# EAGLE library part EFM32TG110F32 (library EnergyMicro)
EFM32TG110F32 Tiny Microcontroller in 5mm x 5mm QFN24 package
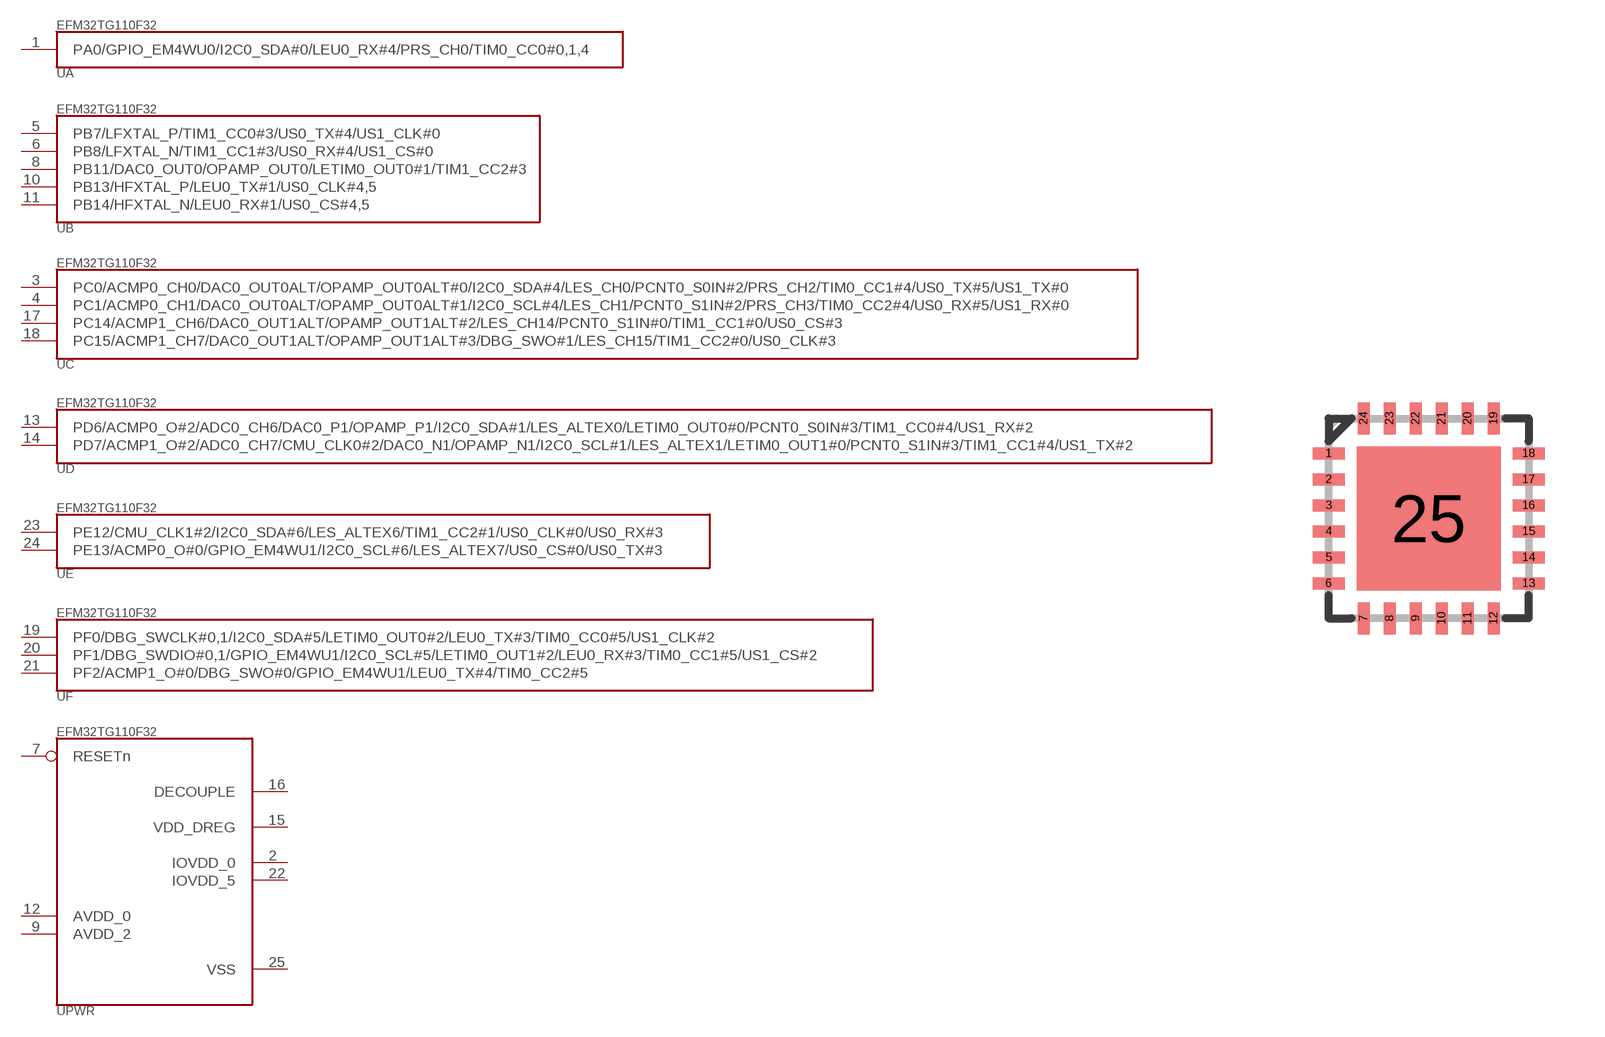
[diagram p120: symbol with the pads of QFN24; footprint QFN24]

Designator prefix -; gates A=EFM32TG110F32_A B=EFM32TG110F32_B C=EFM32TG110F32_C D=EFM32TG110F32_D E=EFM32TG110F32_E F=EFM32TG110F32_F PWR=EFM32TG110F32_PWR

## EFM32TG110F32  [QFN24]
1  A:PA0/GPIO_EM4WU0/I2C0_SDA#0/LEU0_RX#4/PRS_CH0/TIM0_CC0#0,1,4
2  PWR:IOVDD_0  pwr
3  C:PC0/ACMP0_CH0/DAC0_OUT0ALT/OPAMP_OUT0ALT#0/I2C0_SDA#4/LES_CH0/PCNT0_S0IN#2/PRS_CH2/TIM0_CC1#4/US0_TX#5/US1_TX#0
4  C:PC1/ACMP0_CH1/DAC0_OUT0ALT/OPAMP_OUT0ALT#1/I2C0_SCL#4/LES_CH1/PCNT0_S1IN#2/PRS_CH3/TIM0_CC2#4/US0_RX#5/US1_RX#0
5  B:PB7/LFXTAL_P/TIM1_CC0#3/US0_TX#4/US1_CLK#0
6  B:PB8/LFXTAL_N/TIM1_CC1#3/US0_RX#4/US1_CS#0
7  PWR:RESETn  pas
8  B:PB11/DAC0_OUT0/OPAMP_OUT0/LETIM0_OUT0#1/TIM1_CC2#3
9  PWR:AVDD_2  pwr
10  B:PB13/HFXTAL_P/LEU0_TX#1/US0_CLK#4,5
11  B:PB14/HFXTAL_N/LEU0_RX#1/US0_CS#4,5
12  PWR:AVDD_0  pwr
13  D:PD6/ACMP0_O#2/ADC0_CH6/DAC0_P1/OPAMP_P1/I2C0_SDA#1/LES_ALTEX0/LETIM0_OUT0#0/PCNT0_S0IN#3/TIM1_CC0#4/US1_RX#2
14  D:PD7/ACMP1_O#2/ADC0_CH7/CMU_CLK0#2/DAC0_N1/OPAMP_N1/I2C0_SCL#1/LES_ALTEX1/LETIM0_OUT1#0/PCNT0_S1IN#3/TIM1_CC1#4/US1_TX#2
15  PWR:VDD_DREG  pwr
16  PWR:DECOUPLE  pwr
17  C:PC14/ACMP1_CH6/DAC0_OUT1ALT/OPAMP_OUT1ALT#2/LES_CH14/PCNT0_S1IN#0/TIM1_CC1#0/US0_CS#3
18  C:PC15/ACMP1_CH7/DAC0_OUT1ALT/OPAMP_OUT1ALT#3/DBG_SWO#1/LES_CH15/TIM1_CC2#0/US0_CLK#3
19  F:PF0/DBG_SWCLK#0,1/I2C0_SDA#5/LETIM0_OUT0#2/LEU0_TX#3/TIM0_CC0#5/US1_CLK#2
20  F:PF1/DBG_SWDIO#0,1/GPIO_EM4WU1/I2C0_SCL#5/LETIM0_OUT1#2/LEU0_RX#3/TIM0_CC1#5/US1_CS#2
21  F:PF2/ACMP1_O#0/DBG_SWO#0/GPIO_EM4WU1/LEU0_TX#4/TIM0_CC2#5
22  PWR:IOVDD_5  pwr
23  E:PE12/CMU_CLK1#2/I2C0_SDA#6/LES_ALTEX6/TIM1_CC2#1/US0_CLK#0/US0_RX#3
24  E:PE13/ACMP0_O#0/GPIO_EM4WU1/I2C0_SCL#6/LES_ALTEX7/US0_CS#0/US0_TX#3
25  PWR:VSS  pwr

## Footprint QFN24 (pad centres in mm)
smd 0.8 x 0.3: 1 -2.5,1.625; 2 -2.5,0.975; 3 -2.5,0.325; 4 -2.5,-0.325; 5 -2.5,-0.975; 6 -2.5,-1.625; 13 2.5,-1.625; 14 2.5,-0.975; 15 2.5,-0.325; 16 2.5,0.325; 17 2.5,0.975; 18 2.5,1.625
smd 0.3 x 0.8: 7 -1.625,-2.5; 8 -0.975,-2.5; 9 -0.325,-2.5; 10 0.325,-2.5; 11 0.975,-2.5; 12 1.625,-2.5; 19 1.625,2.5; 20 0.975,2.5; 21 0.325,2.5; 22 -0.325,2.5; 23 -0.975,2.5; 24 -1.625,2.5
smd 3.6 x 3.6: 25 0,0